# Altium integrated library WE-TMSB_rev15a.intlib: 4 symbols
Pins are listed as number, name and electrical type; pins without a type are passive.

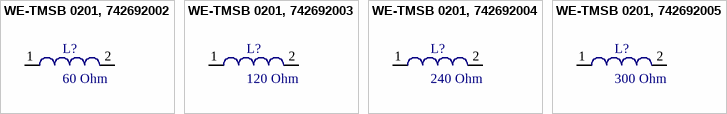
[diagram p0: symbols WE-TMSB 0201, 742692002 to WE-TMSB 0201, 742692005]

## WE-TMSB 0201, 742692002
designator L?, comment 60 Ohm
Tiny Multilayer Suppression  Bead  WE-TMSB, Z= 60 Ohm; partNo: 742692002; Manufacturer: Würth Elektronik eiSos GmbH; Impedance: 60 Ohm; ComponentLink1Description: Manufacturer; ComponentLink1URL: http://www.we-online.de; Created by: Otto Christin; Created Date: Sep 2013; ComponentLink2Description: Datasheet; ComponentLink2URL: http://www.we-online.de/katalog/media/pdf/742692002.pdf
footprint WE-TMSB 0201 (Chip Inductor, 2-Leads, Body 0.6x0.3mm, IPC Medium Density)
pins: 1, 2

## WE-TMSB 0201, 742692003
designator L?, comment 120 Ohm
Tiny Multilayer Suppression  Bead  WE-TMSB, Z= 120 Ohm; partNo: 742692003; Manufacturer: Würth Elektronik eiSos GmbH; Impedance: 120 Ohm; ComponentLink1Description: Manufacturer; ComponentLink1URL: http://www.we-online.de; Created by: Otto Christin; Created Date: Sep 2013; ComponentLink2Description: Datasheet; ComponentLink2URL: http://www.we-online.de/katalog/media/pdf/742692003.pdf
footprint WE-TMSB 0201 (Chip Inductor, 2-Leads, Body 0.6x0.3mm, IPC Medium Density)
pins: 1, 2

## WE-TMSB 0201, 742692004
designator L?, comment 240 Ohm
Tiny Multilayer Suppression  Bead  WE-TMSB, Z= 240 Ohm; partNo: 742692004; Manufacturer: Würth Elektronik eiSos GmbH; Impedance: 240 Ohm; ComponentLink1Description: Manufacturer; ComponentLink1URL: http://www.we-online.de; Created by: Otto Christin; Created Date: Sep 2013; ComponentLink2Description: Datasheet; ComponentLink2URL: http://www.we-online.de/katalog/media/pdf/742692004.pdf
footprint WE-TMSB 0201 (Chip Inductor, 2-Leads, Body 0.6x0.3mm, IPC Medium Density)
pins: 1, 2

## WE-TMSB 0201, 742692005
designator L?, comment 300 Ohm
Tiny Multilayer Suppression  Bead  WE-TMSB, Z= 300 Ohm; partNo: 742692005; Manufacturer: Würth Elektronik eiSos GmbH; Impedance: 300 Ohm; ComponentLink1Description: Manufacturer; ComponentLink1URL: http://www.we-online.de; Created by: Otto Christin; Created Date: Sep 2013; ComponentLink2Description: Datasheet; ComponentLink2URL: http://www.we-online.de/katalog/media/pdf/742692005.pdf
footprint WE-TMSB 0201 (Chip Inductor, 2-Leads, Body 0.6x0.3mm, IPC Medium Density)
pins: 1, 2